# Altium integrated library FSUSB42.IntLib: 1 symbol
Pins are listed as number, name and electrical type; pins without a type are passive.

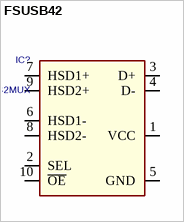
[diagram p0: symbol FSUSB42]

## FSUSB42
designator IC?, comment FSUSB42MUX
PDF: http://www.fairchildsemi.com/ds/FS/FSUSB42.pdf; PRICE: 1.70000; BUY_LINK: http://www.digikey.com/product-detail/en/FSUSB42MUX/FSUSB42MUXCT-ND/2036937; ID: FSUSB42MUX
footprint MSOP10
pins: 1 VCC, 2 SEL, 3 D+, 4 D-, 5 GND, 6 HSD1-, 7 HSD1+, 8 HSD2-, 9 HSD2+, 10 ~{OE}